# Altium schematic symbol library Buttons.SchLib: 1 symbol
Pins are listed as number, name and electrical type; pins without a type are passive.

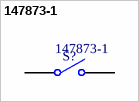
[diagram p0: symbol 147873-1]

## 147873-1
designator S?  Manufacturer Part Number: 147873-1  (hidden comment: *)
Pushbutton Switches SW TACT SMT J-LEAD 5.0MM; Manufacturer: TE Connectivity / Alcoswitch; Actuator: Rectangular; Contact Form: SPST; Current Rating: 50 mA; Illumination: None; Switch Function: OFF - (ON); Voltage Rating DC: 24 VDC; Cap Color: Brown; Life: 40000 Cycles; Supplier 1: Mouser; RoHS: RoHS Compliant; Category: Pushbutton Switches; Stock 1: 15926; Pricing 1: 1=0.302, 10=0.288, 25=0.259, 50=0.230, 100=0.220, 250=0.201, 500=0.192, 1000=0.158, 1800=0.145 (EUR); Contact Plating: Silver; Height: 5 mm; Material: Polyamide; Packaging: Reel; Termination Style: Solder Pin; Brand: TE Connectivity / Alcoswitch; Flammability Rating: UL 94 V-0; Mounting Style: SMD/SMT; Standard Pack Qty: 1800; RoHS - Mouser: Y; Minimum Order Quantity: 1; Reeling: True; ComponentLink1URL: http://www.mouser.com/ds/2/418/NG_CD_147873_K3-196492.pdf; ComponentLink1Description: http://www.mouser.com/ds/2/418/NG_CD_147873_K3-196492.pdf; Supplier Part Number 1: 506-147873-1
footprint 147873-1 (SPST TE Conectivity push button)
pins: 1 COMMON, 2 NO